# EAGLE library part ATSAMR21G (library hack)
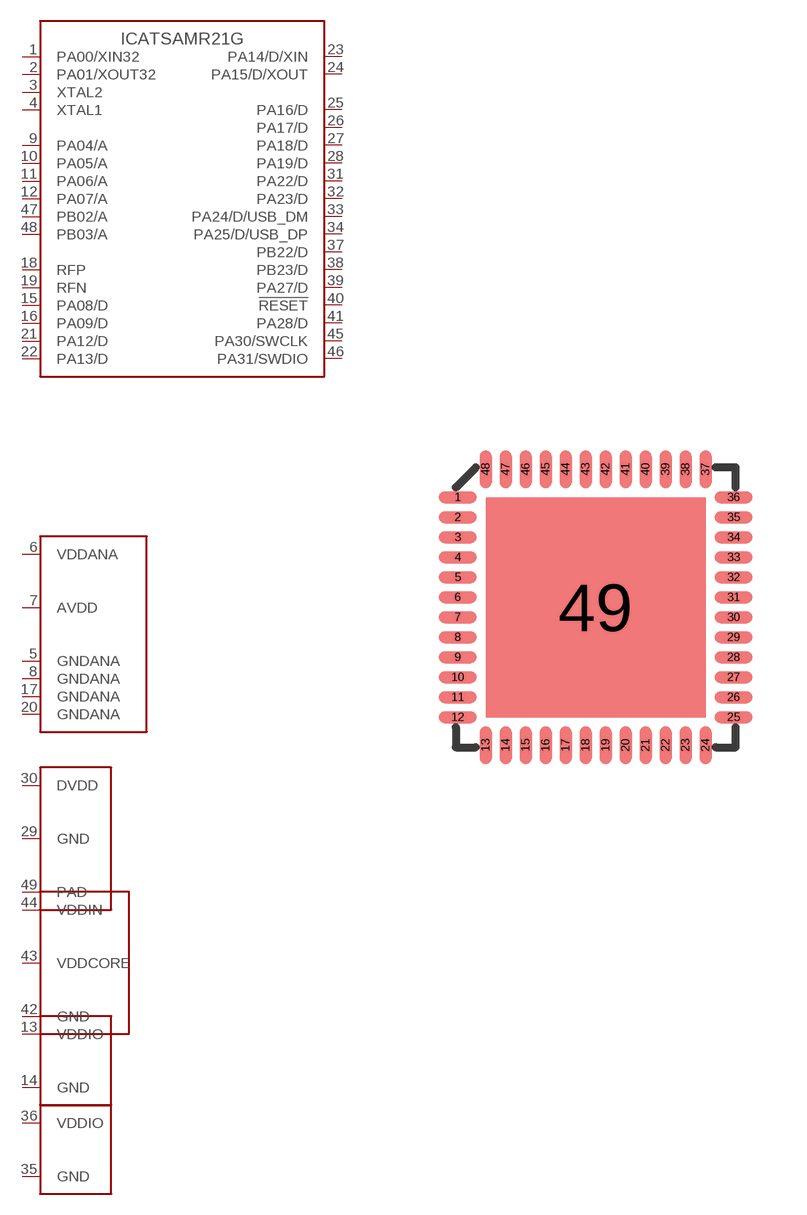
[diagram p5: symbol with the pads of QFN48-PAD; footprint QFN48-PAD]

Designator prefix IC; gates ATSAMR21G=ATSAMR21G-IO ATSAMR21G-PWR-ANA=ATSAMR21G-PWR-ANA ATSAMR21G-PWR-D=ATSAMR21G-PWR-D ATSAMR21G-PWR-IN-CORE=ATSAMR21G-PWR-IN-CORE ATSAMR121G-PWR-IO-1=ATSAMR21G-PWR-IO ATSAMR21G-PWR-IO-2=ATSAMR21G-PWR-IO

## ATSAMR21G  [QFN48-PAD]
1  ATSAMR21G:PA00/XIN32
2  ATSAMR21G:PA01/XOUT32
3  ATSAMR21G:XTAL2
4  ATSAMR21G:XTAL1
5  ATSAMR21G-PWR-ANA:GNDANA  sup
6  ATSAMR21G-PWR-ANA:VDDANA  pwr
7  ATSAMR21G-PWR-ANA:AVDD  pwr
8  ATSAMR21G-PWR-ANA:GNDANA  sup
9  ATSAMR21G:PA04/A
10  ATSAMR21G:PA05/A
11  ATSAMR21G:PA06/A
12  ATSAMR21G:PA07/A
13  ATSAMR121G-PWR-IO-1:VDDIO  pwr
14  ATSAMR121G-PWR-IO-1:GND  sup
15  ATSAMR21G:PA08/D
16  ATSAMR21G:PA09/D
17  ATSAMR21G-PWR-ANA:GNDANA  sup
18  ATSAMR21G:RFP
19  ATSAMR21G:RFN
20  ATSAMR21G-PWR-ANA:GNDANA  sup
21  ATSAMR21G:PA12/D
22  ATSAMR21G:PA13/D
23  ATSAMR21G:PA14/D/XIN
24  ATSAMR21G:PA15/D/XOUT
25  ATSAMR21G:PA16/D
26  ATSAMR21G:PA17/D
27  ATSAMR21G:PA18/D
28  ATSAMR21G:PA19/D
29  ATSAMR21G-PWR-D:GND  sup
30  ATSAMR21G-PWR-D:DVDD  pwr
31  ATSAMR21G:PA22/D
32  ATSAMR21G:PA23/D
33  ATSAMR21G:PA24/D/USB_DM
34  ATSAMR21G:PA25/D/USB_DP
35  ATSAMR21G-PWR-IO-2:GND  sup
36  ATSAMR21G-PWR-IO-2:VDDIO  pwr
37  ATSAMR21G:PB22/D
38  ATSAMR21G:PB23/D
39  ATSAMR21G:PA27/D
40  ATSAMR21G:!RESET
41  ATSAMR21G:PA28/D
42  ATSAMR21G-PWR-IN-CORE:GND  sup
43  ATSAMR21G-PWR-IN-CORE:VDDCORE  pwr
44  ATSAMR21G-PWR-IN-CORE:VDDIN  pwr
45  ATSAMR21G:PA30/SWCLK
46  ATSAMR21G:PA31/SWDIO
47  ATSAMR21G:PB02/A
48  ATSAMR21G:PB03/A
49  ATSAMR21G-PWR-D:PAD  pas

## Footprint QFN48-PAD (pad centres in mm)
smd 0.95 x 0.3: 1 -3.45,2.75; 2 -3.45,2.25; 3 -3.45,1.75; 4 -3.45,1.25; 5 -3.45,0.75; 6 -3.45,0.25; 7 -3.45,-0.25; 8 -3.45,-0.75; 9 -3.45,-1.25; 10 -3.45,-1.75; 11 -3.45,-2.25; 12 -3.45,-2.75; 25 3.45,-2.75; 26 3.45,-2.25; 27 3.45,-1.75; 28 3.45,-1.25; 29 3.45,-0.75; 30 3.45,-0.25; 31 3.45,0.25; 32 3.45,0.75; 33 3.45,1.25; 34 3.45,1.75; 35 3.45,2.25; 36 3.45,2.75
smd 0.3 x 0.95: 13 -2.75,-3.45; 14 -2.25,-3.45; 15 -1.75,-3.45; 16 -1.25,-3.45; 17 -0.75,-3.45; 18 -0.25,-3.45; 19 0.25,-3.45; 20 0.75,-3.45; 21 1.25,-3.45; 22 1.75,-3.45; 23 2.25,-3.45; 24 2.75,-3.45; 37 2.75,3.45; 38 2.25,3.45; 39 1.75,3.45; 40 1.25,3.45; 41 0.75,3.45; 42 0.25,3.45; 43 -0.25,3.45; 44 -0.75,3.45; 45 -1.25,3.45; 46 -1.75,3.45; 47 -2.25,3.45; 48 -2.75,3.45
smd 5.5 x 5.5: 49 0,0